# Altium footprint library 003-Inductor.PcbLib: 8 footprints
Each footprint in its own frame and in the unit in brackets; x right, y up, seen from the top. Pads: shape width x height; smd on the part's side, far side on the other; paste and mask are expansions set on the pad; w line width, h text height; cw(c..) or ccw(c..) is an arc to the next point about the centre after c.
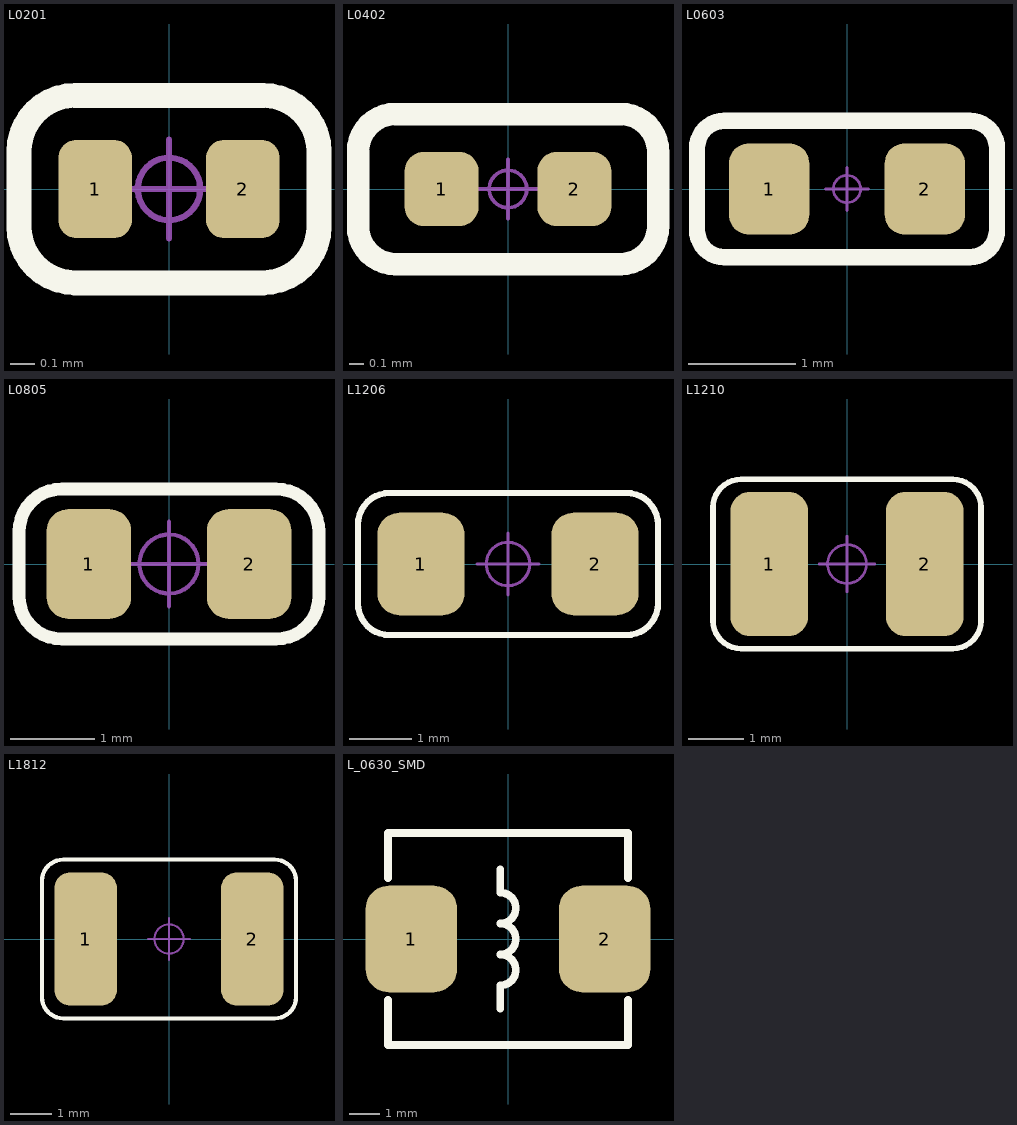
[diagram p0: the footprints below, top view; thin cyan lines are the x and y axes]

## L0201 [mm] "0201-贴片叠层电感"
pads (2):
  rrect50% 0.3x0.4 smd: 1(-0.3,0) 2(0.3,0)
Top Overlay:
  lines w0.102: -0.61,-0.152 ccw(c-0.381,-0.152) -0.381,-0.381 0.381,-0.381 ccw(c0.381,-0.152) 0.61,-0.152 0.61,0.152 ccw(c0.381,0.152) 0.381,0.381 -0.381,0.381 ccw(c-0.381,0.152) -0.61,0.152 -0.61,-0.152
Mechanical 15:
  circle w0.025: c0,0 r0.127
  lines w0.025: -0.2,0 0.2,0 ; 0,-0.2 0,0.2
3D body "L0201.step": height 0.3, standoff 0, extent -0.3,-0.15 0.3,0.15

## L0402 [mm] "0402-贴片叠层电感"
pads (2):
  rrect50% 0.5x0.5 smd: 1(-0.45,0) 2(0.45,0)
Top Overlay:
  lines w0.152: -1.016,-0.254 ccw(c-0.762,-0.254) -0.762,-0.508 0.762,-0.508 ccw(c0.762,-0.254) 1.016,-0.254 1.016,0.254 ccw(c0.762,0.254) 0.762,0.508 -0.762,0.508 ccw(c-0.762,0.254) -1.016,0.254 -1.016,-0.254
Mechanical 15:
  circle w0.025: c0,0 r0.127
  lines w0.025: -0.2,0 0.2,0 ; 0,-0.2 0,0.2
3D body "L0402.step": height 0.5, standoff 0, extent -0.5,-0.25 0.5,0.25

## L0603 [mm] "0603-贴片叠层电感"
pads (2):
  rrect50% 0.75x0.85 smd: 1(-0.725,0) 2(0.725,0)
Top Overlay:
  lines w0.152: -1.397,-0.381 ccw(c-1.143,-0.381) -1.143,-0.635 1.143,-0.635 ccw(c1.143,-0.381) 1.397,-0.381 1.397,0.381 ccw(c1.143,0.381) 1.143,0.635 -1.143,0.635 ccw(c-1.143,0.381) -1.397,0.381 -1.397,-0.381
Mechanical 15:
  circle w0.025: c0,0 r0.127
  lines w0.025: -0.2,0 0.2,0 ; 0,-0.2 0,0.2
3D body "L0603.step": height 0.5, standoff 0, extent -0.798,-0.384 0.802,0.416

## L0805 [mm] "0805-贴片叠层电感"
height 0.5
pads (2):
  rrect50% 1x1.3 smd: 1(-0.95,0) 2(0.95,0)
Top Overlay:
  lines w0.152: -1.778,-0.381 ccw(c-1.27,-0.381) -1.27,-0.889 1.27,-0.889 ccw(c1.27,-0.381) 1.778,-0.381 1.778,0.381 ccw(c1.27,0.381) 1.27,0.889 -1.27,0.889 ccw(c-1.27,0.381) -1.778,0.381 -1.778,-0.381
Mechanical 15:
  circle w0.05: c0,0 r0.35
  lines w0.05: -0.5,0 0.5,0 ; 0,-0.5 0,0.5
3D body "L0805.step": height 0.61, standoff 0, extent -1,-0.651 1,0.65

## L1206 [mm] "1206-贴片叠层电感"
pads (2):
  rrect50% 1.4x1.65 smd: 1(-1.4,0) 2(1.4,0)
Top Overlay:
  lines w0.102: -2.413,-0.635 ccw(c-1.905,-0.635) -1.905,-1.143 1.905,-1.143 ccw(c1.905,-0.635) 2.413,-0.635 2.413,0.635 ccw(c1.905,0.635) 1.905,1.143 -1.905,1.143 ccw(c-1.905,0.635) -2.413,0.635 -2.413,-0.635
Mechanical 15:
  circle w0.05: c0,0 r0.35
  lines w0.05: -0.5,0 0.5,0 ; 0,-0.5 0,0.5
3D body "L1206.step": height 1.1, standoff 0, extent -1.6,-0.798 1.6,0.798

## L1210 [mm] "1210-贴片叠层电感"
pads (2):
  rrect50% 1.4x2.6 smd: 1(-1.4,0) 2(1.4,0)
Top Overlay:
  lines w0.102: -2.413,-1.016 ccw(c-1.905,-1.016) -1.905,-1.524 1.905,-1.524 ccw(c1.905,-1.016) 2.413,-1.016 2.413,1.016 ccw(c1.905,1.016) 1.905,1.524 -1.905,1.524 ccw(c-1.905,1.016) -2.413,1.016 -2.413,-1.016
Mechanical 15:
  circle w0.05: c0,0 r0.35
  lines w0.05: -0.5,0 0.5,0 ; 0,-0.5 0,0.5
3D body "L1210.step": height 0.96, standoff 0.01, extent -1.6,-1.25 1.6,1.25

## L1812 [mm] "1812-贴片叠层电感"
pads (2):
  rrect50% 1.5x3.2 smd: 1(-2,0) 2(2,0)
Top Overlay:
  lines w0.102: -3.048,-1.397 ccw(c-2.54,-1.397) -2.54,-1.905 2.54,-1.905 ccw(c2.54,-1.397) 3.048,-1.397 3.048,1.397 ccw(c2.54,1.397) 2.54,1.905 -2.54,1.905 ccw(c-2.54,1.397) -3.048,1.397 -3.048,-1.397
Mechanical 15:
  circle w0.05: c0,0 r0.35
  lines w0.05: -0.5,0 0.5,0 ; 0,-0.5 0,0.5
3D body "L1812.step": height 1.26, standoff 0.01, extent -2.25,-1.6 2.25,1.6

## L_0630_SMD [mm] "一体化成型电感(0630)-7.1mm*6.6mm*3.0mm"
height 3
pads (2):
  rrect50% 3x3.5 smd: 1(-3.175,0) 2(3.175,0)
Top Overlay:
  lines w0.254: -3.937,-2.007 -3.937,-3.48 3.937,-3.48 3.937,-2.007 ; -3.937,2.007 -3.937,3.48 3.937,3.48 3.937,2.007 ; -0.254,-2.286 -0.254,-1.524 ccw(c-0.254,-1.016) -0.254,-0.508 ccw(c-0.254,0) -0.254,0.508 ccw(c-0.254,1.016) -0.254,1.524 -0.254,2.286
3D body "L_0630_SMD.step": height 3.14, standoff 0.03, extent -3.9,-3.5 3.9,3.5